# Altium integrated library C0805C103K2RACTU.IntLib: 1 symbol
Pins are listed as number, name and electrical type; pins without a type are passive.

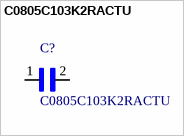
[diagram p0: symbol C0805C103K2RACTU]

## C0805C103K2RACTU
designator C?
/ 0805 C 10nF Ceramic Multilayer Capacitor, 200 VDC, +125degC, X7R Dielec, +/-10% /; MF: KEMET; Digi-Key_Part_Number: 399-7993-1-ND; SnapEDA_Link: https://www.snapeda.com/parts/C0805C103K2RACTU/KEMET/view-part/?ref=snap; Package: 2012 KEMET; MP: C0805C103K2RACTU; Digi-Key_Purchase_URL: https://www.digikey.com/product-detail/en/kemet/C0805C103K2RACTU/399-7993-1-ND/3471716?utm_source=snapeda&utm_medium=aggregator&utm_campaign=symbol; Value: *
footprint *CAPC2012X88N
pins: 1, 2